# Altium footprint library DB_connectors.PcbLib: 17 footprints (part 1 of 2)
Each footprint in its own frame and in the unit in brackets; x right, y up, seen from the top. Pads: shape width x height; smd on the part's side, far side on the other; paste and mask are expansions set on the pad; w line width, h text height; cw(c..) or ccw(c..) is an arc to the next point about the centre after c.
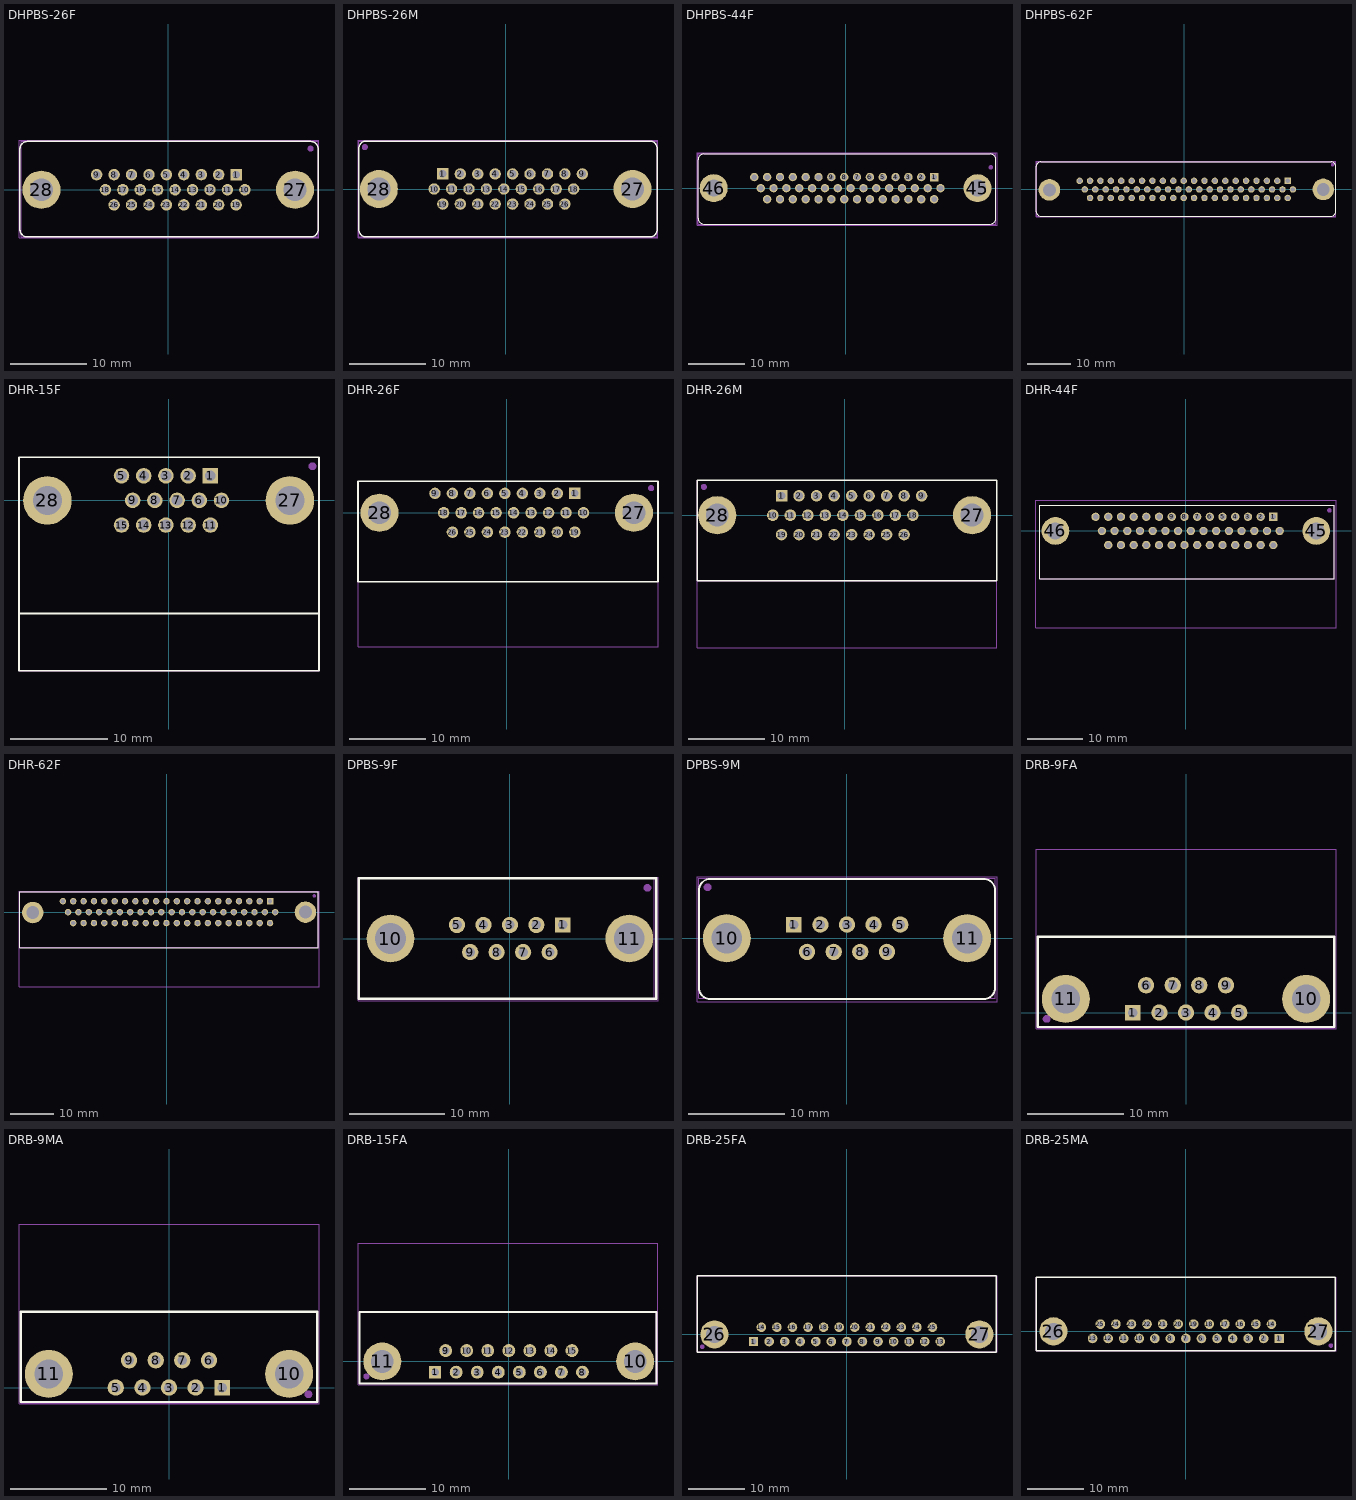
[diagram p0: the footprints below, top view; thin cyan lines are the x and y axes]

## DHPBS-26F [mm]
pads (28):
  rect 1.5x1.5 hole 1: 1(8.92,1.98)
  round 1.5 hole 1: 2(6.63,1.98) 3(4.34,1.98) 4(2.05,1.98) 5(-0.24,1.98) 6(-2.53,1.98) 7(-4.82,1.98) 8(-7.11,1.98) 9(-9.4,1.98) 10(10.065,0) 11(7.775,0) 12(5.485,0) 13(3.195,0) 14(0.905,0) 15(-1.385,0) 16(-3.675,0) 17(-5.965,0) 18(-8.255,0) 19(8.92,-1.98) 20(6.63,-1.98) 21(4.34,-1.98) 22(2.05,-1.98) 23(-0.24,-1.98) 24(-2.53,-1.98) 25(-4.82,-1.98) 26(-7.11,-1.98)
  round 5 hole 3: 27(16.66,0) 28(-16.66,0)
Top Overlay:
  lines w0.2: -19.48,-5.2 ccw(c-18.48,-5.2) -18.48,-6.2 18.7,-6.2 ccw(c18.7,-5.2) 19.7,-5.2 19.7,5.34 ccw(c18.7,5.34) 18.7,6.34 -18.48,6.34 ccw(c-18.48,5.34) -19.48,5.34 -19.48,-5.2
Top Assembly:
  circle w0.4: c18.7,5.4 r0.2
  lines w0.1: -19.3,-6.2 19.7,-6.2 19.7,6.34 -19.3,6.34 -19.3,-6.2
  text ".Designator" at -4.998,-0.333 h1
Top Courtyard (Mech15):
  lines w0.05: -19.6,-6.3 19.8,-6.3 19.8,6.5 -19.6,6.5 -19.6,-6.3
3D body "connector_a-hdf_26_pp_z.stp": height 12, standoff -4.6, extent -19.2,-6.175 19.94,6.375

## DHPBS-26M [mm]
pads (28):
  rect 1.5x1.5 hole 1: 1(-8.255,1.98)
  round 1.5 hole 1: 2(-5.965,1.98) 3(-3.675,1.98) 4(-1.385,1.98) 5(0.905,1.98) 6(3.195,1.98) 7(5.485,1.98) 8(7.775,1.98) 9(10.065,1.98) 10(-9.4,0) 11(-7.11,0) 12(-4.82,0) 13(-2.53,0) 14(-0.24,0) 15(2.05,0) 16(4.34,0) 17(6.63,0) 18(8.92,0) 19(-8.255,-1.98) 20(-5.965,-1.98) 21(-3.675,-1.98) 22(-1.385,-1.98) 23(0.905,-1.98) 24(3.195,-1.98) 25(5.485,-1.98) 26(7.775,-1.98)
  round 5 hole 3: 27(16.66,0) 28(-16.66,0)
Top Overlay:
  lines w0.2: -19.3,-5.3 ccw(c-18.3,-5.3) -18.3,-6.3 18.9,-6.3 ccw(c18.9,-5.3) 19.9,-5.3 19.9,5.3 ccw(c18.9,5.3) 18.9,6.3 -18.3,6.3 ccw(c-18.3,5.3) -19.3,5.3 -19.3,-5.3
Top Assembly:
  circle w0.4: c-18.5,5.5 r0.2
  lines w0.1: -19.309,-6.3 19.9,-6.3 19.9,6.3 -19.309,6.3 -19.309,-6.3
  text ".Designator" at -4.998,-0.333 h1
Top Courtyard (Mech15):
  lines w0.05: -19.4,-6.4 20,-6.4 20,6.4 -19.4,6.4 -19.4,-6.4
3D body "connector_a-hds_26_pp_z.stp": height 12.1, standoff -4.6, extent -19.3,-6.25 19.84,6.3

## DHPBS-44F [mm]
pads (46):
  rect 1.5x1.5 hole 1: 1(15.78,1.98)
  round 1.5 hole 1: 2(13.49,1.98) 3(11.2,1.98) 4(8.91,1.98) 5(6.62,1.98) 6(4.33,1.98) 7(2.04,1.98) 8(-0.25,1.98) 9(-2.54,1.98) 10(-4.83,1.98) 11(-7.12,1.98) 12(-9.41,1.98) 13(-11.7,1.98) 14(-13.99,1.98) 15(-16.28,1.98) 16(16.925,0) 17(14.635,0) 18(12.345,0) 19(10.055,0) 20(7.765,0) 21(5.475,0) 22(3.185,0) 23(0.895,0) 24(-1.395,0) 25(-3.685,0) 26(-5.975,0) 27(-8.265,0) 28(-10.555,0) 29(-12.845,0) 30(-15.135,0) 31(15.78,-1.98) 32(13.49,-1.98) 33(11.2,-1.98) 34(8.91,-1.98) 35(6.62,-1.98) 36(4.33,-1.98) 37(2.04,-1.98) 38(-0.25,-1.98) 39(-2.54,-1.98) 40(-4.83,-1.98) 41(-7.12,-1.98) 42(-9.41,-1.98) 43(-11.7,-1.98) 44(-13.99,-1.98)
  round 5 hole 3: 45(23.52,0) 46(-23.52,0)
Top Overlay:
  lines w0.2: -26.3,-5.4 ccw(c-25.3,-5.4) -25.3,-6.4 25.8,-6.4 ccw(c25.8,-5.4) 26.8,-5.4 26.8,5.1 ccw(c25.8,5.1) 25.8,6.1 -25.3,6.1 ccw(c-25.3,5.1) -26.3,5.1 -26.3,-5.4
Top Assembly:
  circle w0.4: c25.9,3.7 r0.2
  lines w0.1: -26.3,-6.4 -26.3,6.1 26.8,6.1 26.8,-6.4 -26.3,-6.4
  text ".Designator" at -4.998,-0.333 h1
Top Courtyard (Mech15):
  lines w0.05: -26.5,-6.6 -26.5,6.3 27,6.3 27,-6.6 -26.5,-6.6
3D body "connector_a-hdf_44_pp_z.stp": height 12, standoff -4.6, extent -26.3,-6.45 26.74,6.1

## DHPBS-62F [mm]
height 12.5
pads (64):
  rect 1.5x1.5 hole 1: 1(24.01,1.98)
  round 1.5 hole 1: 2(21.6,1.98) 3(19.19,1.98) 4(16.78,1.98) 5(14.37,1.98) 6(11.96,1.98) 7(9.55,1.98) 8(7.14,1.98) 9(4.73,1.98) 10(2.32,1.98) 11(-0.09,1.98) 12(-2.5,1.98) 13(-4.91,1.98) 14(-7.32,1.98) 15(-9.73,1.98) 16(-12.14,1.98) 17(-14.55,1.98) 18(-16.96,1.98) 19(-19.37,1.98) 20(-21.78,1.98) 21(-24.19,1.98) 22(25.215,0) 23(22.805,0) 24(20.395,0) 25(17.985,0) 26(15.575,0) 27(13.165,0) 28(10.755,0) 29(8.345,0) 30(5.935,0) 31(3.525,0) 32(1.115,0) 33(-1.295,0) 34(-3.705,0) 35(-6.115,0) 36(-8.525,0) 37(-10.935,0) 38(-13.345,0) 39(-15.755,0) 40(-18.165,0) 41(-20.575,0) 42(-22.985,0) 43(24.01,-1.98) 44(21.6,-1.98) 45(19.19,-1.98) 46(16.78,-1.98) 47(14.37,-1.98) 48(11.96,-1.98) 49(9.55,-1.98) 50(7.14,-1.98) 51(4.73,-1.98) 52(2.32,-1.98) 53(-0.09,-1.98) 54(-2.5,-1.98) 55(-4.91,-1.98) 56(-7.32,-1.98) 57(-9.73,-1.98) 58(-12.14,-1.98) 59(-14.55,-1.98) 60(-16.96,-1.98) 61(-19.37,-1.98) 62(-21.78,-1.98)
  round 5 hole 3: ""(-31.2,-0.1) ""(32.25,0)
Top Overlay:
  lines w0.2: -34.2,-5.2 ccw(c-33.2,-5.2) -33.2,-6.2 34.1,-6.2 ccw(c34.1,-5.2) 35.1,-5.2 35.1,5.4 ccw(c34.1,5.4) 34.1,6.4 -33.2,6.4 ccw(c-33.2,5.4) -34.2,5.4 -34.2,-5.2
Top Assembly:
  circle w0.4: c34.4,5.7 r0.2
  lines w0.1: -34.17,-6.2 35.1,-6.2 35.1,6.4 -34.17,6.4 -34.17,-6.2
  text ".Designator" at -4.998,-0.333 h1
Top Courtyard (Mech15):
  lines w0.05: -34.3,-6.3 35.2,-6.3 35.2,6.5 -34.3,6.5 -34.3,-6.3
3D body "connector_a-hdf_62_pp_z.stp": height 13, standoff -3.6, extent -34.17,-6.15 35.15,6.4

## DHR-15F [mm]
pads (17):
  rect 1.6x1.6 hole 1.1: 1(4.305,2.54)
  round 1.6 hole 1.1: 2(2.015,2.54) 3(-0.275,2.54) 4(-2.565,2.54) 5(-4.855,2.54) 6(3.16,0) 7(0.87,0) 8(-1.42,0) 9(-3.71,0) 10(5.45,0) 11(4.305,-2.54) 12(2.015,-2.54) 13(-0.275,-2.54) 14(-2.565,-2.54) 15(-4.855,-2.54)
  round 5 hole 3: 27(12.5,0) 28(-12.5,0)
Top Overlay:
  lines w0.2: -15.375,-11.65 15.5,-11.65 ; -15.4,-17.56 15.5,-17.56 15.5,4.45 -15.4,4.45 -15.4,-17.56
Top Assembly:
  circle w0.4: c14.825,3.525 r0.2
  lines w0.1: -15.42,-17.55 15.5,-17.55 15.5,4.45 -15.42,4.45 -15.42,-17.55
  text ".Designator" at -4.998,-0.333 h1
Top Courtyard (Mech15):
  lines w0.05: -15.4,-17.56 15.475,-17.56 15.475,4.45 -15.4,4.45 -15.4,-17.56
3D body "User Library-DHR-15F.STEP": height 12.5, standoff -4.65, extent -15.42,-17.57 15.42,4.53

## DHR-26F [mm]
pads (28):
  rect 1.5x1.5 hole 1: 1(8.92,2.54)
  round 1.5 hole 1: 2(6.63,2.54) 3(4.34,2.54) 4(2.05,2.54) 5(-0.24,2.54) 6(-2.53,2.54) 7(-4.82,2.54) 8(-7.11,2.54) 9(-9.4,2.54) 10(10.065,0) 11(7.775,0) 12(5.485,0) 13(3.195,0) 14(0.905,0) 15(-1.385,0) 16(-3.675,0) 17(-5.965,0) 18(-8.255,0) 19(8.92,-2.54) 20(6.63,-2.54) 21(4.34,-2.54) 22(2.05,-2.54) 23(-0.24,-2.54) 24(-2.53,-2.54) 25(-4.82,-2.54) 26(-7.11,-2.54)
  round 5 hole 3: 27(16.66,0) 28(-16.66,0)
Top Overlay:
  lines w0.2: -19.48,-9.06 -19.48,4.14 19.82,4.14 19.82,-9.06 -19.48,-9.06
Top Assembly:
  circle w0.4: c18.92,3.23 r0.2
  lines w0.1: -19.409,-9 -19.409,4.13 19.82,4.13 19.82,-9 -19.409,-9
  text ".Designator" at -4.998,-0.333 h1
Top Courtyard (Mech15):
  lines w0.05: -19.48,-17.56 -19.48,4.14 19.82,4.14 19.82,-17.56 -19.48,-17.56
3D body "cd26s13e4rv12lf.stp": height 12.55, standoff -2.01, extent -19.44,-17.51 19.88,4.12

## DHR-26M [mm]
pads (28):
  rect 1.5x1.5 hole 1: 1(-8.255,2.54)
  round 1.5 hole 1: 2(-5.965,2.54) 3(-3.675,2.54) 4(-1.385,2.54) 5(0.905,2.54) 6(3.195,2.54) 7(5.485,2.54) 8(7.775,2.54) 9(10.065,2.54) 10(-9.4,0) 11(-7.11,0) 12(-4.82,0) 13(-2.53,0) 14(-0.24,0) 15(2.05,0) 16(4.34,0) 17(6.63,0) 18(8.92,0) 19(-8.255,-2.54) 20(-5.965,-2.54) 21(-3.675,-2.54) 22(-1.385,-2.54) 23(0.905,-2.54) 24(3.195,-2.54) 25(5.485,-2.54) 26(7.775,-2.54)
  round 5 hole 3: 27(16.66,0) 28(-16.66,0)
Top Overlay:
  lines w0.2: -19.3,-8.6 19.9,-8.6 19.9,4.6 -19.3,4.6 -19.3,-8.6
Top Assembly:
  circle w0.4: c-18.409,3.7 r0.2
  lines w0.1: -19.309,-8.6 -19.309,4.6 19.9,4.6 19.9,-8.6 -19.309,-8.6
  text ".Designator" at -4.998,-0.333 h1
Top Courtyard (Mech15):
  lines w0.05: -19.3,-17.36 -19.3,4.6 19.92,4.6 19.92,-17.36 -19.3,-17.36
3D body "10090926p264llf.stp": height 12.5, standoff -4, extent -19.28,-17.26 19.92,4.64

## DHR-44F [mm]
pads (46):
  rect 1.5x1.5 hole 1: 1(15.78,2.54)
  round 1.5 hole 1: 2(13.49,2.54) 3(11.2,2.54) 4(8.91,2.54) 5(6.62,2.54) 6(4.33,2.54) 7(2.04,2.54) 8(-0.25,2.54) 9(-2.54,2.54) 10(-4.83,2.54) 11(-7.12,2.54) 12(-9.41,2.54) 13(-11.7,2.54) 14(-13.99,2.54) 15(-16.28,2.54) 16(16.925,0) 17(14.635,0) 18(12.345,0) 19(10.055,0) 20(7.765,0) 21(5.475,0) 22(3.185,0) 23(0.895,0) 24(-1.395,0) 25(-3.685,0) 26(-5.975,0) 27(-8.265,0) 28(-10.555,0) 29(-12.845,0) 30(-15.135,0) 31(15.78,-2.54) 32(13.49,-2.54) 33(11.2,-2.54) 34(8.91,-2.54) 35(6.62,-2.54) 36(4.33,-2.54) 37(2.04,-2.54) 38(-0.25,-2.54) 39(-2.54,-2.54) 40(-4.83,-2.54) 41(-7.12,-2.54) 42(-9.41,-2.54) 43(-11.7,-2.54) 44(-13.99,-2.54)
  round 5 hole 3: 45(23.52,0) 46(-23.52,0)
Top Overlay:
  lines w0.2: -26.3,-8.6 -26.3,4.6 26.8,4.6 26.8,-8.6 -26.3,-8.6
Top Assembly:
  circle w0.4: c25.9,3.7 r0.2
  lines w0.1: -26.3,-8.6 -26.3,4.6 26.8,4.6 26.8,-8.6 -26.3,-8.6
  text ".Designator" at -4.998,-0.333 h1
Top Courtyard (Mech15):
  lines w0.05: -27.02,-17.46 -27.02,5.54 27.08,5.54 27.08,-17.46 -27.02,-17.46
3D body "DHR-44F.stp": height 12.27, standoff -4.9, extent -26.225,-17.3 26.825,4.6

## DHR-62F [mm]
height 12.5
pads (64):
  rect 1.5x1.5 hole 1: 1(24.01,2.54)
  round 1.5 hole 1: 2(21.6,2.54) 3(19.19,2.54) 4(16.78,2.54) 5(14.37,2.54) 6(11.96,2.54) 7(9.55,2.54) 8(7.14,2.54) 9(4.73,2.54) 10(2.32,2.54) 11(-0.09,2.54) 12(-2.5,2.54) 13(-4.91,2.54) 14(-7.32,2.54) 15(-9.73,2.54) 16(-12.14,2.54) 17(-14.55,2.54) 18(-16.96,2.54) 19(-19.37,2.54) 20(-21.78,2.54) 21(-24.19,2.54) 22(25.215,0) 23(22.805,0) 24(20.395,0) 25(17.985,0) 26(15.575,0) 27(13.165,0) 28(10.755,0) 29(8.345,0) 30(5.935,0) 31(3.525,0) 32(1.115,0) 33(-1.295,0) 34(-3.705,0) 35(-6.115,0) 36(-8.525,0) 37(-10.935,0) 38(-13.345,0) 39(-15.755,0) 40(-18.165,0) 41(-20.575,0) 42(-22.985,0) 43(24.01,-2.54) 44(21.6,-2.54) 45(19.19,-2.54) 46(16.78,-2.54) 47(14.37,-2.54) 48(11.96,-2.54) 49(9.55,-2.54) 50(7.14,-2.54) 51(4.73,-2.54) 52(2.32,-2.54) 53(-0.09,-2.54) 54(-2.5,-2.54) 55(-4.91,-2.54) 56(-7.32,-2.54) 57(-9.73,-2.54) 58(-12.14,-2.54) 59(-14.55,-2.54) 60(-16.96,-2.54) 61(-19.37,-2.54) 62(-21.78,-2.54)
  round 5 hole 3: ""(-31.2,-0.1) ""(32.25,0)
Top Overlay:
  lines w0.2: -34.2,-8.3 35.2,-8.3 35.2,4.7 -34.2,4.7 -34.2,-8.3
Top Assembly:
  circle w0.4: c34.3,3.8 r0.2
  lines w0.1: -34.17,-8.2 -34.17,4.7 35.2,4.7 35.2,-8.2 -34.17,-8.2
  text ".Designator" at -4.998,-0.333 h1
Top Courtyard (Mech15):
  lines w0.05: -34.4,-17.4 -34.4,4.9 35.4,4.9 35.4,-17.4 -34.4,-17.4
3D body "DHR62F.stp": height 12.37, standoff -4.8, extent -34.2,-17.2 35.2,4.7

## DPBS-9F [mm] "Разъем на плату прямой"
height 12.55
pads (11):
  rect 1.6x1.6 hole 1: 1(5.54,1.42)
  round 1.7 hole 1: 2(2.77,1.42) 3(0,1.42) 4(-2.77,1.42) 5(-5.54,1.42) 6(4.155,-1.42) 7(1.385,-1.42) 8(-1.385,-1.42) 9(-4.155,-1.42)
  round 5 hole 3.2: 10(-12.5,0) 11(12.5,0)
Top Overlay:
  lines w0.254: -15.8,-6.3 15.3,-6.3 15.3,6.3 -15.8,6.3 -15.8,-6.3
Top Assembly:
  circle w0.4: c14.4,5.3 r0.2
  lines w0.1: -15.8,-6.3 -15.8,6.3 15.1,6.3 15.1,-6.3 -15.8,-6.3
  text ".Designator" at -4.998,-0.333 h1
Top Courtyard (Mech15):
  lines w0.05: -15.9,-6.5 -15.9,6.4 15.5,6.4 15.5,-6.5 -15.9,-6.5
3D body "D-SUB 9F.stp": height 12.45, standoff -4.25, extent -15.705,-6.25 15.105,6.25

## DPBS-9M [mm] "Разъем на плату прямой"
height 10.7
pads (11):
  rect 1.6x1.6 hole 1: 1(-5.54,1.42)
  round 1.7 hole 1: 2(-2.77,1.42) 3(0,1.42) 4(2.77,1.42) 5(5.54,1.42) 6(-4.155,-1.42) 7(-1.385,-1.42) 8(1.385,-1.42) 9(4.155,-1.42)
  round 5 hole 3.2: 10(-12.5,0) 11(12.5,0)
Top Overlay:
  lines w0.2: -14.221,6.17 ccw(c-14.2,4.97) -15.4,4.949 -15.4,-5.13 ccw(c-14.2,-5.13) -14.2,-6.33 14.2,-6.33 ccw(c14.2,-5.13) 15.4,-5.13 15.4,4.992 ccw(c14.2,4.97) 14.178,6.17 -14.2,6.17
Top Assembly:
  circle w0.4: c-14.5,5.3 r0.2
  lines w0.1: -15.4,-6.25 15.4,-6.25 15.4,6.25 -15.4,6.25 -15.4,-6.25
  text ".Designator" at -4.998,-0.333 h1
Top Courtyard (Mech15):
  lines w0.05: -15.6,-6.58 15.6,-6.58 15.6,6.42 -15.6,6.42 -15.6,-6.58
3D body "DPBS-9M-BRJ.step": height 13.5, standoff -3.7, extent -15.4,-6.25 15.4,6.25

## DRB-9FA [mm] "Разъем на плату угловой"
height 12.55
pads (11):
  rect 1.6x1.6 hole 1: 1(-5.54,0)
  round 1.7 hole 1: 2(-2.77,0) 3(0,0) 4(2.77,0) 5(5.54,0) 6(-4.155,2.84) 7(-1.385,2.84) 8(1.385,2.84) 9(4.155,2.84)
  round 5 hole 3: 10(12.5,1.42) 11(-12.5,1.42)
Top Overlay:
  lines w0.254: -15.4,-1.5 15.4,-1.5 15.4,7.9 -15.4,7.9 -15.4,-1.5
Top Assembly:
  circle w0.4: c-14.5,-0.66 r0.2
  lines w0.1: -15.4,-1.56 15.4,-1.56 15.4,7.94 -15.4,7.94 -15.4,-1.56
  text ".Designator" at -4.998,-0.333 h1
Top Courtyard (Mech15):
  lines w0.05: -15.6,-1.7 15.6,-1.7 15.6,17 -15.6,17 -15.6,-1.7
3D body "User Library-DB-9F.step": height 12.45, standoff -3.95, extent -15.25,-1.7 15.25,15

## DRB-9MA [mm] "Разъем на плату угловой"
height 12.55
pads (11):
  rect 1.6x1.6 hole 1: 1(5.54,0)
  round 1.7 hole 1: 2(2.77,0) 3(0,0) 4(-2.77,0) 5(-5.54,0) 6(4.155,2.84) 7(1.385,2.84) 8(-1.385,2.84) 9(-4.155,2.84)
  round 5 hole 3: 10(12.5,1.42) 11(-12.5,1.42)
Top Overlay:
  lines w0.254: -15.4,-1.5 -15.4,7.9 15.4,7.9 15.4,-1.5 -15.4,-1.5
Top Assembly:
  circle w0.4: c14.5,-0.69 r0.2
  lines w0.1: -15.4,-1.56 15.4,-1.56 15.4,7.94 -15.4,7.94 -15.4,-1.56
  text ".Designator" at -4.998,-0.333 h1
Top Courtyard (Mech15):
  lines w0.05: -15.6,-1.7 -15.6,17 15.6,17 15.6,-1.7 -15.6,-1.7
3D body "User Library-CON-233.STEP": height 12.67, standoff -3.75, extent -15.4,-1.59 15.4,16.81

## DRB-15FA [mm] "Разъем на плату угловой"
height 12.55
pads (17):
  rect 1.6x1.6 hole 1: 1(-9.69,-1.42)
  round 1.7 hole 1: 2(-6.92,-1.42) 3(-4.15,-1.42) 4(-1.38,-1.42) 5(1.39,-1.42) 6(4.16,-1.42) 7(6.93,-1.42) 8(9.7,-1.42) 9(-8.305,1.42) 10(-5.535,1.42) 11(-2.765,1.42) 12(0.005,1.42) 13(2.775,1.42) 14(5.545,1.42) 15(8.315,1.42)
  round 5 hole 3: 10(16.65,0) 11(-16.65,0)
Top Overlay:
  lines w0.254: -19.65,-2.92 19.45,-2.92 19.45,6.48 -19.65,6.48 -19.65,-2.92
Top Assembly:
  circle w0.4: c-18.75,-1.98 r0.2
  lines w0.1: -19.65,-2.88 -19.65,6.52 19.45,6.52 19.45,-2.88 -19.65,-2.88
  text ".Designator" at -4.998,-0.333 h1
Top Courtyard (Mech15):
  lines w0.05: -19.85,-3.1 19.65,-3.1 19.65,15.58 -19.85,15.58 -19.85,-3.1
3D body "User Library-DRB-15FB.STEP": height 12.6, standoff -3.2, extent -19.55,-2.95 19.55,17.35

## DRB-25FA [mm] "25 Way Right Angled Female D-sub Connector"
height 12.55
pads (27):
  rect 1.6x1.6 hole 1: 1(-16.56,-1.27)
  round 1.7 hole 1: 2(-13.8,-1.27) 3(-11.04,-1.27) 4(-8.28,-1.27) 5(-5.52,-1.27) 6(-2.76,-1.27) 7(0,-1.27) 8(2.76,-1.27) 9(5.52,-1.27) 10(8.28,-1.27) 11(11.04,-1.27) 12(13.8,-1.27) 13(16.56,-1.27) 14(-15.18,1.27) 15(-12.42,1.27) 16(-9.66,1.27) 17(-6.9,1.27) 18(-4.14,1.27) 19(-1.38,1.27) 20(1.38,1.27) 21(4.14,1.27) 22(6.9,1.27) 23(9.66,1.27) 24(12.42,1.27) 25(15.18,1.27)
  round 5 hole 3: 26(-23.5,0) 27(23.5,0)
Top Overlay:
  lines w0.254: -26.6,-3.13 -26.6,10.37 26.5,10.37 26.5,-3.13 -26.6,-3.13
Top Assembly:
  circle w0.4: c-25.671,-2.2 r0.2
  lines w0.1: -26.571,-3.1 -26.571,10.37 26.629,10.37 26.629,-3.1 -26.571,-3.1
  text ".Designator" at -4.998,-0.333 h1
3D body "User Library-d-sub25 connector(1).step": height 12.67, standoff -4.47, extent -26.52,-3.03 26.52,17.47

## DRB-25MA [mm]
height 12.55
pads (27):
  rect 1.6x1.6 hole 1: 1(16.56,-1.27)
  round 1.7 hole 1: 2(13.8,-1.27) 3(11.04,-1.27) 4(8.28,-1.27) 5(5.52,-1.27) 6(2.76,-1.27) 7(0,-1.27) 8(-2.76,-1.27) 9(-5.52,-1.27) 10(-8.28,-1.27) 11(-11.04,-1.27) 12(-13.8,-1.27) 13(-16.56,-1.27) 14(15.18,1.27) 15(12.42,1.27) 16(9.66,1.27) 17(6.9,1.27) 18(4.14,1.27) 19(1.38,1.27) 20(-1.38,1.27) 21(-4.14,1.27) 22(-6.9,1.27) 23(-9.66,1.27) 24(-12.42,1.27) 25(-15.18,1.27)
  round 5 hole 3: 26(-23.5,0) 27(23.5,0)
Top Overlay:
  lines w0.254: -26.6,-3.43 26.5,-3.43 26.5,9.57 -26.6,9.57 -26.6,-3.43
Top Assembly:
  circle w0.4: c25.729,-2.53 r0.2
  lines w0.1: -26.571,-3.43 -26.571,9.57 26.629,9.57 26.629,-3.43 -26.571,-3.43
  text ".Designator" at -4.998,-0.333 h1
3D body "User Library-DBPN1M-25.step": height 12.65, standoff -4.72, extent -26.44,-3.504 26.44,15.67